# EAGLE library part MAX9934TART+T (library MAX9934)
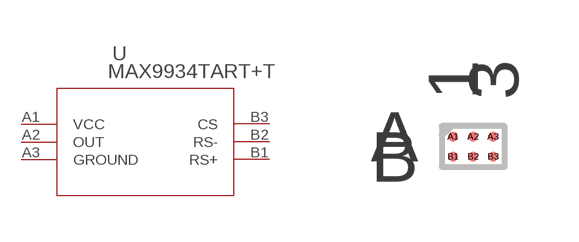
[diagram p0: symbol with the pads of 21-0228_R61A1+1_MXM; footprint 21-0228_R61A1+1_MXM]

Designator prefix U

## MAX9934TART+T (COPYRIGHT: Copyright (C) 2023 Ultra Librarian. All rights reserved.; MANUFACTURER_PART_NUMBER: MAX9934TART+T; MFR_NAME: Analog Devices Inc)  [21-0228_R61A1+1_MXM]
A1  VCC  pwr
A2  OUT  out
A3  GROUND  pwr
B1  RS+  in
B2  RS-  in
B3  CS  in

## Footprint 21-0228_R61A1+1_MXM (pad centres in mm)
smd 0.254 x 0.254: A1 -0.5,0.25; A2 0,0.25; A3 0.5,0.25; B1 -0.5,-0.25; B2 0,-0.25; B3 0.5,-0.25